# Altium footprint library PcbLib1.PcbLib: 8 footprints
Each footprint in its own frame and in the unit in brackets; x right, y up, seen from the top. Pads: shape width x height; smd on the part's side, far side on the other; paste and mask are expansions set on the pad; w line width, h text height; cw(c..) or ccw(c..) is an arc to the next point about the centre after c.
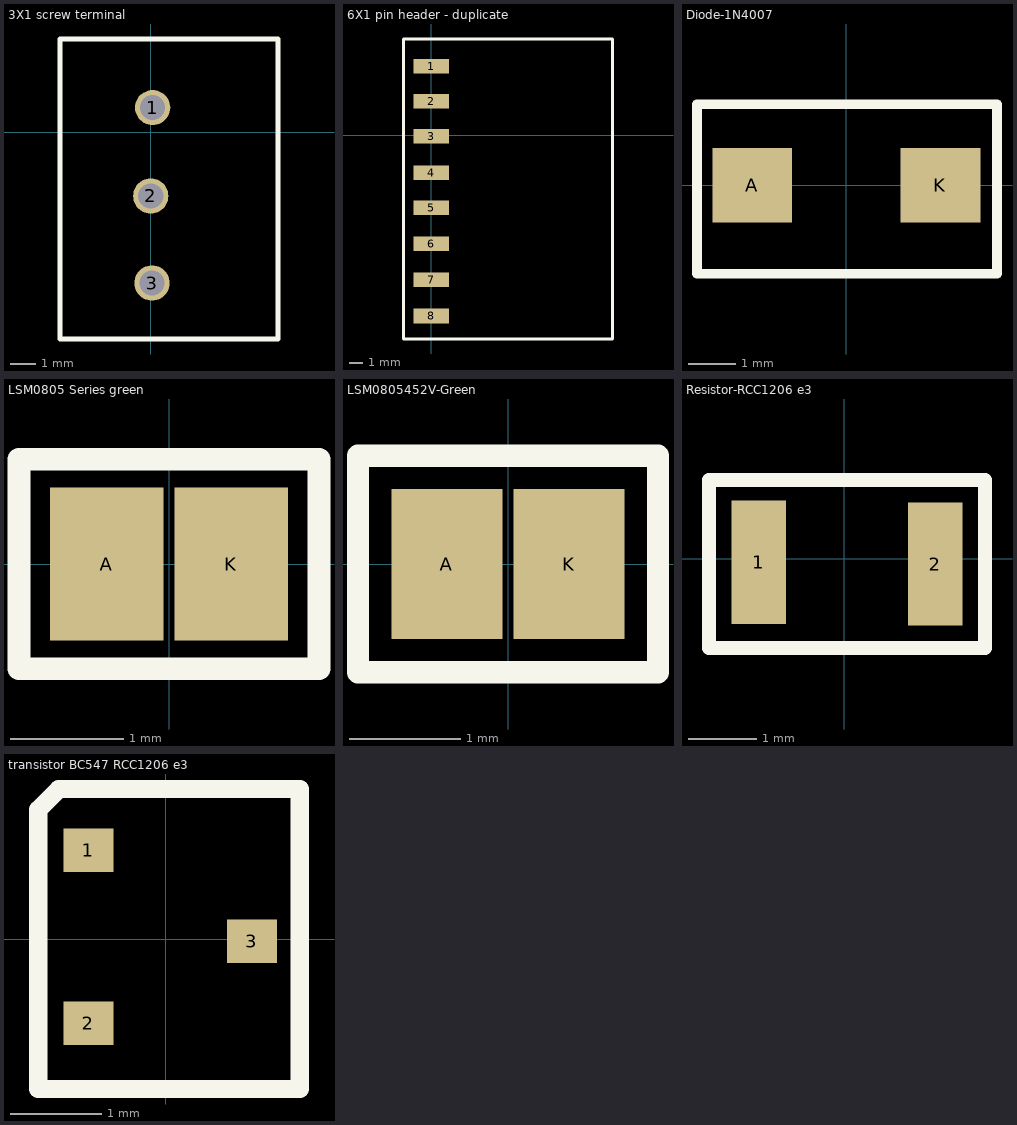
[diagram p0: the footprints below, top view; thin cyan lines are the x and y axes]

## 3X1 screw terminal [mm]
pads (3):
  round 1.4 hole 1: 1(0.075,0.975) 2(0,-2.54) 3(0.05,-6)
Top Overlay:
  lines w0.2: -3.6,-8.225 5.05,-8.225 5.05,3.7 -3.6,3.7 -3.6,-8.225
3D body "1984620.stp": height 9.01, standoff -4.49, extent -3.1,-7.81 4.5,3.26

## 6X1 PIN HEADER [mm]

## 6X1 pin header - duplicate [mm]
pads (8):
  rect 2.55x1.05 smd: 1(0,4.95) 2(0,2.45) 3(0,-0.075) 4(0,-2.675) 5(0,-5.2) 6(0,-7.77) 7(0,-10.36) 8(0,-12.95)
Top Overlay:
  lines w0.2: -2,-14.6 -2,6.9 12.975,6.9 12.975,-14.6 -2,-14.6
3D body "m20-89008xx_asm.stp": height 3.47, standoff 0.01, extent -1.29,-14.135 11.95,6.185

## Diode-1N4007 [mm]
pads (2):
  rect 1.67x1.56 smd: A(-1.965,0) K(1.965,0)
Top Overlay:
  lines w0.2: -3.12,-1.85 -3.12,0 -3.12,1.7 3.15,1.7 3.15,-1.85 -3.12,-1.85
3D body "User Library-Diode SMD 1N4007.step": height 2.41, standoff -0.02, extent -2.65,-1.625 2.65,1.485

## LSM0805 Series green [mm]
pads (2):
  rect 1x1.35 smd: A(-0.55,0) K(0.55,0)
Top Overlay:
  lines w0.2: -1.325,0.925 -1.325,0.925 ; -1.325,0.925 1.325,0.925 1.325,-0.925 -1.325,-0.925 -1.325,0.925
3D body "everlight-17-21-0805LED-red.step": height 1.11, standoff 0, extent -0.975,-0.6 1.025,0.65

## LSM0805452V-Green [mm]
pads (2):
  rect 1x1.35 smd: A(-0.55,0) K(0.55,0)
Top Overlay:
  lines w0.2: -1.35,-0.975 1.35,-0.975 1.35,0.975 -1.35,0.975 -1.35,0.075 -1.35,-0.975
3D body "everlight-17-21-0805LED-GREEN.step": height 1.11, standoff 0, extent -1,-0.625 1,0.625

## Resistor-RCC1206 e3 [mm]
pads (2):
  rect 0.8x1.8 smd: 1(-1.25,-0.05) 2(1.325,-0.075)
Top Overlay:
  lines w0.2: -1.975,-1.3 -1.975,0.025 -1.975,1.15 2.05,1.15 2.05,-1.3 -1.975,-1.3
3D body "resistor_1206.step": height 0.56, standoff -0.04, extent -1.55,-0.85 1.65,0.75

## transistor BC547 RCC1206 e3 [mm]
pads (3):
  rect 0.55x0.48 smd: 1(-0.85,0.975) 2(-0.85,-0.925) 3(0.95,-0.025)
Top Overlay:
  lines w0.2: -1.4,-1.65 -1.4,1.425 -1.175,1.65 1.475,1.65 1.475,-1.65 -1.4,-1.65
3D body "mmbt3904.stp": height 0.94, standoff -0.14, extent -1.095,-1.5 1.245,1.42